# Altium schematic symbol library Twomes_Monitor.SCHLIB: 9 symbols
Pins are listed as number, name and electrical type; pins without a type are passive.

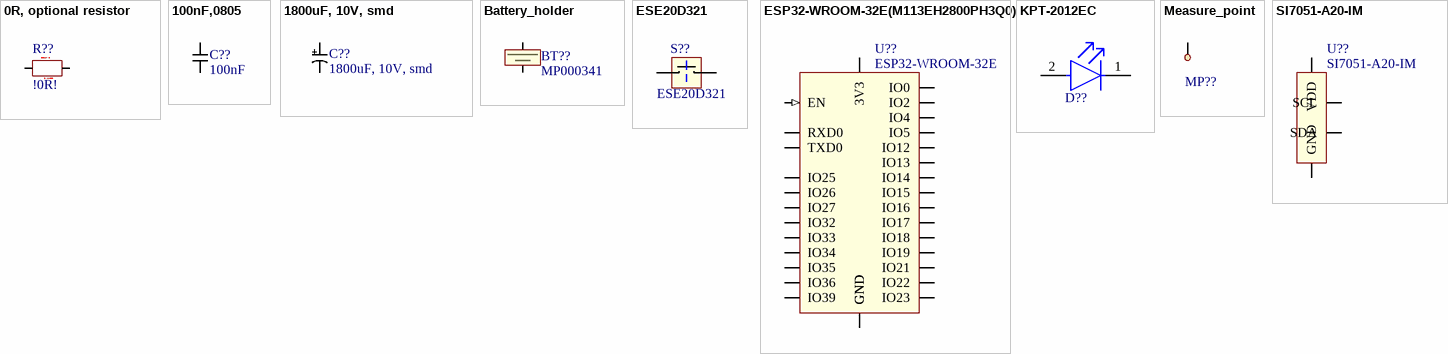
[diagram p0: symbols 0R, optional resistor to SI7051-A20-IM]

## 0R, optional resistor
designator R??, comment !0R!
normally shorted, but easy to change to an resistor footprint
footprint R1206_SHORTED_REMOVABLE (Chip Resistor, 2-Leads, Body 3,10x1,60mm, IPC High Density)
pins: 1, 2
text: !

## 100nF,0805
designator C??, comment 100nF
885012207045 -  SMD Multilayer Ceramic Capacitor, 0.1 µF, 16 V, 0805 [2012 Metric], ± 10%, X7R, WCAP-CSGP Series; Brand: Wurth Elektronik; Order Code: 2495190; Capacitance: 100nF; Type: 885012207045; Price: 0,0915; Supplier: Farnell
footprint C0805 (Chip Capacitor, 2-Leads, Body 2,00x1,25mm, IPC Low Density)
pins: 1, 2

## 1800uF, 10V, smd
designator C??
SMD Aluminium Electrolytic Capacitor, Radial Can, 1800 µF, 10 V, 0.092 ohm, TRV Series; Brand: RUBYCON; Type: 10TRV1800M12.5X13.5; Order Code: 2535761; Capacitance: 1800µF; Price: 0,436; Supplier: Farnell; Voltage: 10V
footprint Rubycon_TRV_12.5mmx13.5mm (Aluminum Electrolytic Capacitor, Body 13,00x13,00x13,00mm, IPC Medium Density)
pins: 1 + "-", 2 - "+"

## Battery_holder
designator BT??, comment MP000341
Battery Holder, PCB, 1 x AAA; Brand: MULTICOMP PRO; Order Code: 3126578; Seller: Farnell; Price: 0,662; Type: MP000341
footprint MP000341 (Battery holder, AAA, 3D model is look-a-like)
pins: 1 +, 2 -

## ESE20D321
designator S??
Pushbutton Switch, ESE20D Series, SPST-NO, Off-(On), Square, White; Brand: PANASONIC; Order Code: 2079605; Seller: Farnell; Type: ESE20D321; Price: 0,836
footprint ESE20_3 (Panasonic Momentary Push Switches)
pins: 1 a, 2 b, 3 c "connected to a", 4 d "connected to b"

## ESP32-WROOM-32E(M113EH2800PH3Q0)
designator U??, comment ESP32-WROOM-32E
USB-modules (802.11) SMD Module ESP32-WROOM-32E, ESP32-D0WD-V3, 16 MB SPI flash, PCB antenna; Brand: Espressif Systems; Order Code: 356-ESP32WRM32E128PH; Type: ESP32-WROOM-32E; Price: 2,64; Supplier: MOUSER
footprint ESP32­WROOM­32E
pins: 1 GND (power) "Ground", 2 3V3 (power) "Power supply", 3 EN (in) "HIGH: on, LOW: off", 4 IO36 (io) "GPIO36, ADC1_CH0, RTC_GPIO0", 5 IO39 (io) "GPIO39, ADC1_CH3, RTC_GPIO3", 6 IO34 (io) "GPIO34, ADC1_CH6, RTC_GPIO4", 7 IO35 (io) "GPIO35, ADC1_CH7, RTC_GPIO5", 8 IO32 (io) "GPIO32, XTAL_32K_P (32.768 kHz crystal oscillator input), ADC1_CH4,  TOUCH9, RTC_GPIO9", 9 IO33 (io) "GPIO33, XTAL_32K_N (32.768 kHz crystal oscillator output),  ADC1_CH5, TOUCH8, RTC_GPIO8", 10 IO25 (io) "GPIO25, DAC_1, ADC2_CH8, RTC_GPIO6, EMAC_RXD0", 11 IO26 (io) "GPIO26, DAC_2, ADC2_CH9, RTC_GPIO7, EMAC_RXD1", 12 IO27 (io) "GPIO27, ADC2_CH7, TOUCH7, RTC_GPIO17, EMAC_RX_DV", 13 IO14 (io) "GPIO14, ADC2_CH6, TOUCH6, RTC_GPIO16, MTMS, HSPICLK,  HS2_CLK, SD_CLK, EMAC_TXD2", 14 IO12 (io) "GPIO12, ADC2_CH5, TOUCH5, RTC_GPIO15, MTDI, HSPIQ,  HS2_DATA2, SD_DATA2, EMAC_TXD3", 15 GND (power) "Ground", 16 IO13 (io) "GPIO13, ADC2_CH4, TOUCH4, RTC_GPIO14, MTCK, HSPID,  HS2_DATA3, SD_DATA3, EMAC_RX_ER", 17 NC (hiz), 18 NC (hiz), 19 NC (hiz), 20 NC (hiz), 21 NC (hiz), 22 NC (hiz), 23 IO15 (io) "GPIO15, ADC2_CH3, TOUCH3, MTDO, HSPICS0, RTC_GPIO13,  HS2_CMD, SD_CMD, EMAC_RXD3", 24 IO2 (io) "GPIO2, ADC2_CH2, TOUCH2, RTC_GPIO12, HSPIWP, HS2_DATA0,  SD_DATA0", 25 IO0 (io) "GPIO0, ADC2_CH1, TOUCH1, RTC_GPIO11, CLK_OUT1,  EMAC_TX_CLK", 26 IO4 (io) "GPIO4, ADC2_CH0, TOUCH0, RTC_GPIO10, HSPIHD, HS2_DATA1,  SD_DATA1, EMAC_TX_ER", 27 IO16 (io) "GPIO16, HS1_DATA4, U2RXD, EMAC_CLK_OUT", 28 IO17 (io) "GPIO17, HS1_DATA5, U2TXD, EMAC_CLK_OUT_180", 29 IO5 (io) "GPIO5, VSPICS0, HS1_DATA6, EMAC_RX_CLK", 30 IO18 (io) "GPIO18, VSPICLK, HS1_DATA7", 31 IO19 (io) "GPIO19, VSPIQ, U0CTS, EMAC_TXD0", 32 NC (hiz), 33 IO21 (io) "GPIO21, VSPIHD, EMAC_TX_EN", 34 RXD0 (io) "GPIO3, U0RXD, CLK_OUT2", 35 TXD0 (io) "GPIO1, U0TXD, CLK_OUT3, EMAC_RXD2", 36 IO22 (io) "GPIO22, VSPIWP, U0RTS, EMAC_TXD1", 37 IO23 (io) "GPIO23, VSPID, HS1_STROBE", 38 GND (power)

## KPT-2012EC
designator D??, comment red led  (value not drawn)
KPT-2012EC -  LED, Low Power, Red, SMD, 0805 [2012 Metric], 30 mA, 2 V, 617 nm; Brand: KINGBRIGHT; Order Code: 2099236; Type: KPT-2012EC; Supplier: Farnell; Price: 0,112
footprint Kingbright_KPT-2012EC_0
pins: 1 C, 2 A

## Measure_point
designator MP??  (value not drawn)  (no BOM)
Measurepoint
footprint MeasurePoint_1.5mm
pins: 1

## SI7051-A20-IM
designator U??
Temperature Sensor IC, Digital, ± 0.1°C, -40 °C, 125 °C, DFN, 6 Pins; Brand: SILICON LABS; Order Code: 2769160; Type: SI7051-A20-IM; Price: 1,98; Supplier: Farnell; ClassName: Smallpitch
footprint 3x3 6-pin DFN (SON, 6-Leads, Body 3,00x3,00mm, Pitch 1,00mm, Thermal Pad 2,40x1,50mm, IPC Medium Density)
pins: 1 SDA (io) "I2C data line", 2 GND (power) "Supply voltage low", 5 VDD (power) "Supply voltage high", 6 SCL (io) "I2C clock"